# EAGLE library part A4988SETTR-T (library IC)
IC MTR DRVR BIPOLAR 3-5.5V 28QFN Manufacturer's datasheet <https://www.allegromicro.com/~/media/Files/Datasheets/A4988-Datasheet.ashx>
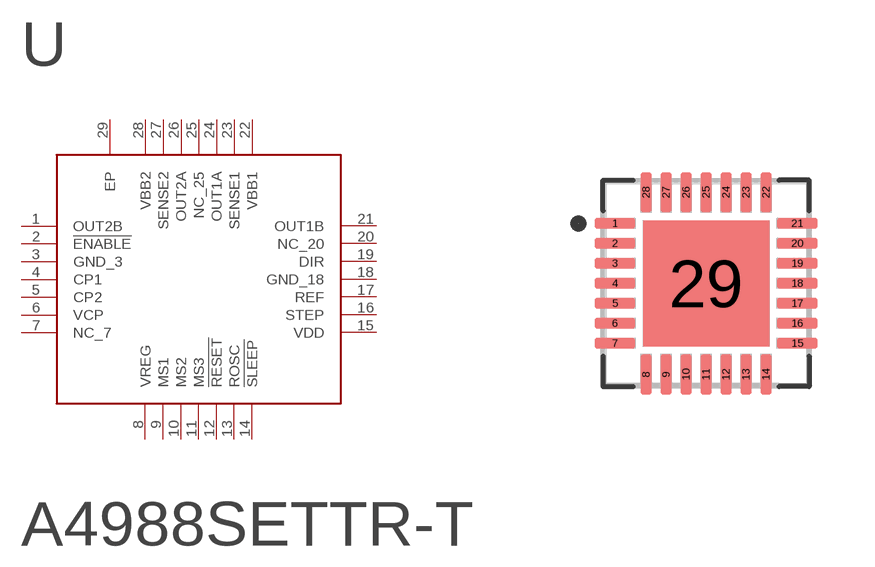
[diagram p14: symbol with the pads of 28-QFN; footprint 28-QFN]

Designator prefix U

## A4988SETTR-T (CREATED_BY: PCBLayout.com; DIGIKEY_PART_NUMBER: 620-1343-1-ND; MANUFACTURER: Allegro MicroSystems, LLC; MPN: A4988SETTR-T; PACKAGE: 28-QFN)  [28-QFN]
1  OUT2B  out
2  !ENABLE  in
3  GND_3  pwr
4  CP1
5  CP2
6  VCP
7  NC_7  pas
8  VREG  pwr
9  MS1  in
10  MS2  in
11  MS3  in
12  !RESET  in
13  ROSC
14  !SLEEP  in
15  VDD  pwr
16  STEP  in
17  REF  in
18  GND_18  pwr
19  DIR  in
20  NC_20  pas
21  OUT1B  out
22  VBB1  pwr
23  SENSE1
24  OUT1A  out
25  NC_25  pas
26  OUT2A  out
27  SENSE2
28  VBB2  pwr
29  EP  pwr

## Footprint 28-QFN (pad centres in mm)
Quad Flat No-Lead (QFN with Tab), 0.50 mm pitch; square, 7 pin X 7 pin, 5.00 mm L X 5.00 mm W X 1.00 mm H body PCB Libraries Packages
smd 1.01 x 0.28: 1 -2.28,1.5; 2 -2.28,1; 3 -2.28,0.5; 4 -2.28,0; 5 -2.28,-0.5; 6 -2.28,-1; 7 -2.28,-1.5; 15 2.28,-1.5; 16 2.28,-1; 17 2.28,-0.5; 18 2.28,0; 19 2.28,0.5; 20 2.28,1; 21 2.28,1.5
smd 0.28 x 1.01: 8 -1.5,-2.28; 9 -1,-2.28; 10 -0.5,-2.28; 11 0,-2.28; 12 0.5,-2.28; 13 1,-2.28; 14 1.5,-2.28; 22 1.5,2.28; 23 1,2.28; 24 0.5,2.28; 25 0,2.28; 26 -0.5,2.28; 27 -1,2.28; 28 -1.5,2.28
smd 3.15 x 3.15: 29 0,0